# EAGLE library part 5747843-4 (library SamacSys_Parts)
TE Connectivity 37 Way Right Angle Through Hole Mount PCB D-sub Connector Plug, 2.75mm Pitch Source: Datasheet <http://www.te.com/commerce/DocumentDelivery/DDEController?Action=showdoc&DocId=Customer Drawing5747843EpdfEnglishENG_CD_5747843_E.pdf5747843-4>
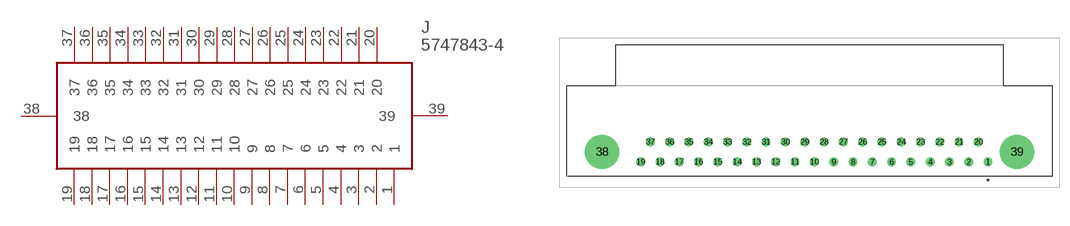
[diagram p0: symbol with the pads of 57478434; footprint 57478434]

Designator prefix J

## 5747843-4 (Description: TE Connectivity 37 Way Right Angle Through Hole Mount PCB D-sub Connector Plug, 2.75mm Pitch; Height: 12mm; Manufacturer_Name: TE Connectivity; Manufacturer_Part_Number: 5747843-4; Mouser_Part_Number: 571-5747843-4; Mouser_Price-Stock: https://www.mouser.co.uk/ProductDetail/TE-Connectivity/5747843-4/?qs=x6EjVpvqMVN1V8aLO9%2Fcmg%3D%3D)  [57478434]
1  1
2  2
3  3
4  4
5  5
6  6
7  7
8  8
9  9
10  10
11  11
12  12
13  13
14  14
15  15
16  16
17  17
18  18
19  19
20  20
21  21
22  22
23  23
24  24
25  25
26  26
27  27
28  28
29  29
30  30
31  31
32  32
33  33
34  34
35  35
36  36
37  37
38  38
39  39

## Footprint 57478434 (pad centres in mm)
5747843-4
drill 0.75 pad 1.2: 1 25.512,-7.04; 2 22.754,-7.04; 3 19.995,-7.04; 4 17.238,-7.04; 5 14.48,-7.04; 6 11.722,-7.04; 7 8.963,-7.04; 8 6.206,-7.04; 9 3.448,-7.04; 10 0.69,-7.04; 11 -2.068,-7.04; 12 -4.826,-7.04; 13 -7.585,-7.04; 14 -10.342,-7.04; 15 -13.101,-7.04; 16 -15.858,-7.04; 17 -18.617,-7.04; 18 -21.375,-7.04; 19 -24.133,-7.04; 20 24.133,-4.2; 21 21.375,-4.2; 22 18.617,-4.2; 23 15.858,-4.2; 24 13.101,-4.2; 25 10.343,-4.2; 26 7.585,-4.2; 27 4.827,-4.2; 28 2.069,-4.2; 29 -0.689,-4.2; 30 -3.447,-4.2; 31 -6.205,-4.2; 32 -8.963,-4.2; 33 -11.721,-4.2; 34 -14.48,-4.2; 35 -17.238,-4.2; 36 -19.995,-4.2; 37 -22.754,-4.2
drill 3.26 pad 4.89: 38 -29.648,-5.62; 39 29.649,-5.62